# Altium footprint library con-vg.PCBLIB: 112 footprints (part 6 of 7)
Each footprint in its own frame and in the unit in brackets; x right, y up, seen from the top. Pads: shape width x height; smd on the part's side, far side on the other; paste and mask are expansions set on the pad; w line width, h text height; cw(c..) or ccw(c..) is an arc to the next point about the centre after c.
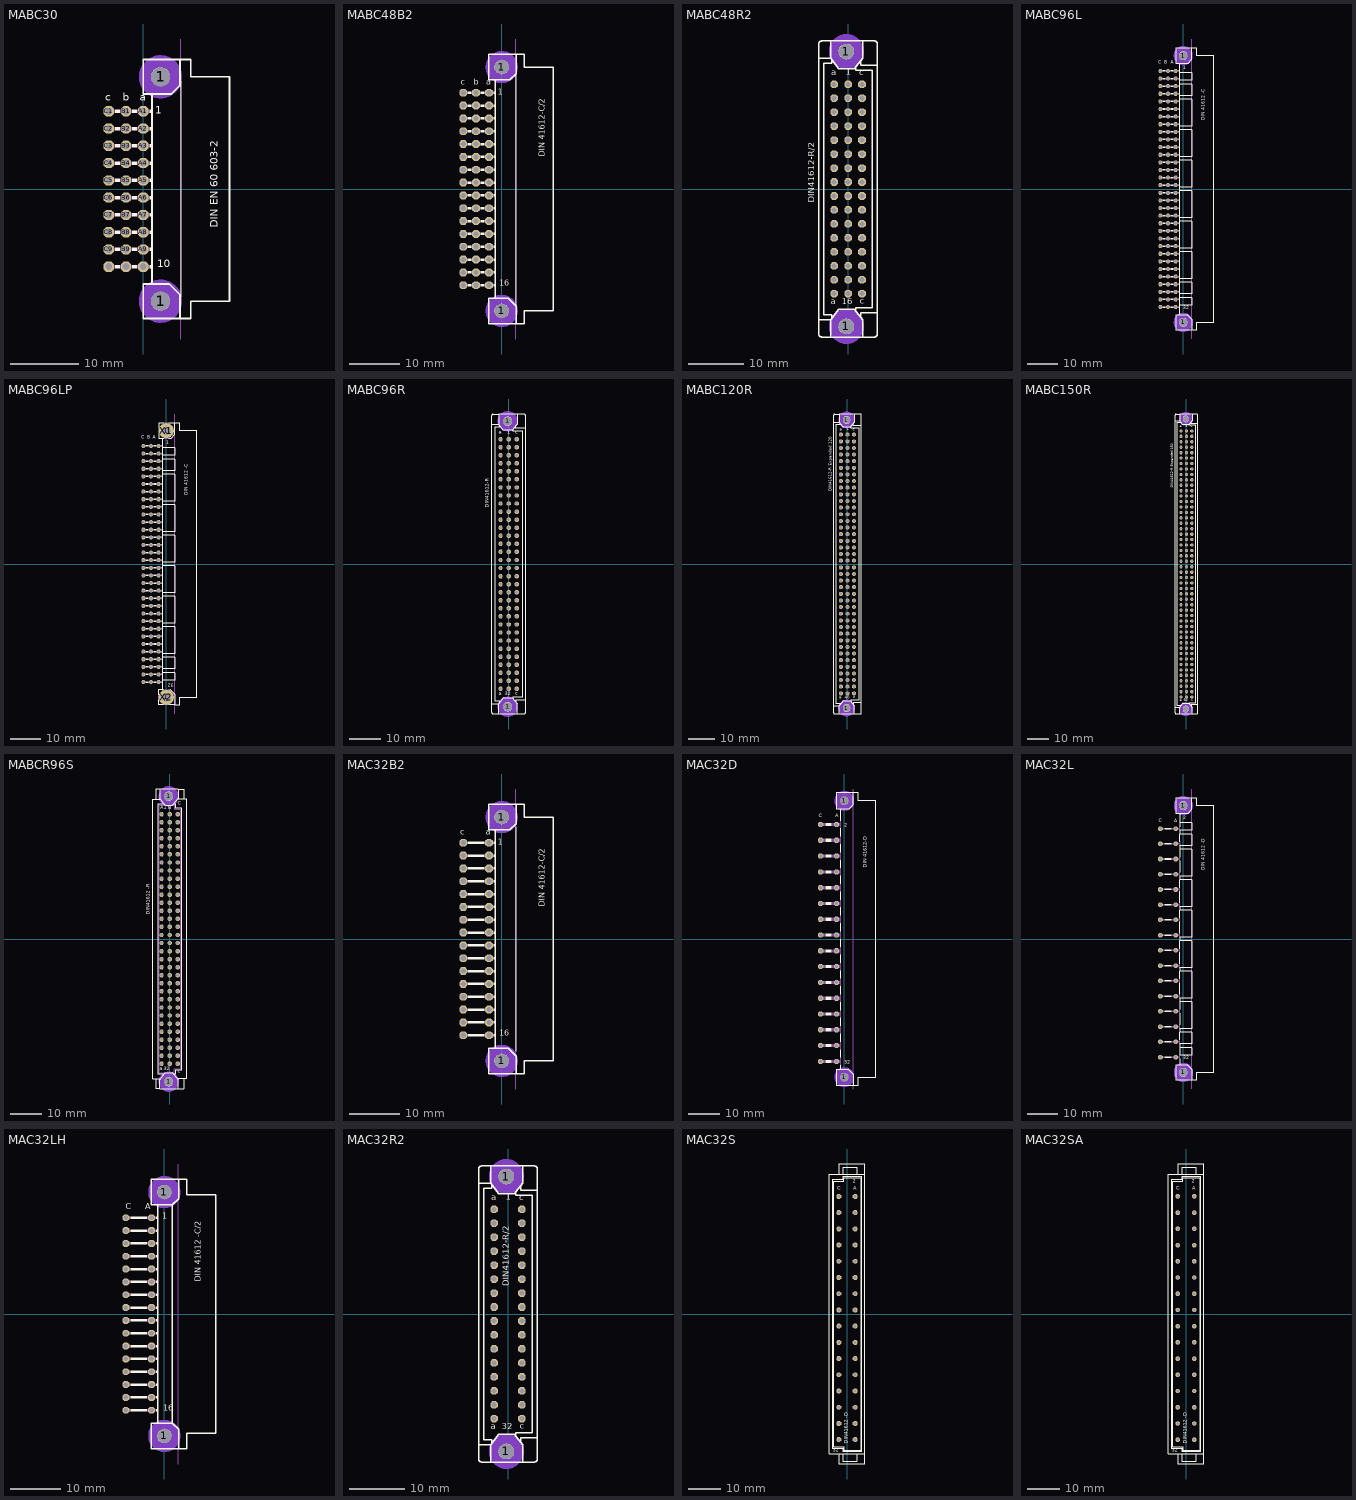
[diagram p5: the footprints below, top view; thin cyan lines are the x and y axes]

## MABC30 [mil]
pads (32):
  round 110 hole 110: 1(100,-650) 1(100,650)
  oct 59.06x59.06 hole 40: A1(0,450) A2(0,350) A3(0,250) A4(0,150) A5(0,50) A6(0,-50) A7(0,-150) A8(0,-250) A9(0,-350) A10(0,-450) B1(-100,450) B2(-100,350) B3(-100,250) B4(-100,150) B5(-100,50) B6(-100,-50) B7(-100,-150) B8(-100,-250) B9(-100,-350) B10(-100,-450) C1(-200,450) C2(-200,350) C3(-200,250) C4(-200,150) C5(-200,50) C6(-200,-50) C7(-200,-150) C8(-200,-250) C9(-200,-350) C10(-200,-450)
Bottom Layer keep-out:
  circle w70: c100,650 r90
  circle w70: c100,-650 r90
Top Overlay:
  circle w10: c100,650 r50
  circle w10: c100,-650 r50
  rectangle: 35,440 50,460
  rectangle: 35,340 50,360
  rectangle: 35,240 50,260
  rectangle: 35,140 50,160
  rectangle: 35,40 50,60
  rectangle: 35,-60 50,-40
  rectangle: 35,-160 50,-140
  rectangle: 35,-260 50,-240
  rectangle: 35,-360 50,-340
  rectangle: 35,-460 50,-440
  rectangle: -65,440 -35,460
  rectangle: -165,440 -135,460
  rectangle: -65,340 -35,360
  rectangle: -165,340 -135,360
  rectangle: -65,240 -35,260
  rectangle: -165,240 -135,260
  rectangle: -165,140 -135,160
  rectangle: -65,140 -35,160
  rectangle: -65,40 -35,60
  rectangle: -165,40 -135,60
  rectangle: -165,-60 -135,-40
  rectangle: -65,-60 -35,-40
  rectangle: -65,-160 -35,-140
  rectangle: -165,-160 -135,-140
  rectangle: -165,-260 -135,-240
  rectangle: -65,-260 -35,-240
  rectangle: -65,-360 -35,-340
  rectangle: -165,-360 -135,-340
  rectangle: -165,-460 -135,-440
  rectangle: -65,-460 -35,-440
  lines w2: 218.11,-625 218.11,625
  lines w10: 50,-545 50,550 ; 50,550 0,550 0,750 213,750 ; 50,550 163,550 213,600 213,750 ; 213,-750 0,-750 0,-550 150,-550 213,-613 213,-750 ; 213,-750 275,-750 275,-650 500,-650 500,650 275,650 275,750 213,750
  text "1" at 70,420 h77.5
  text "DIN EN 60 603-2" at 450,-225 h77.5
  text "c" at -220,495 h77.5
  text "b" at -120,495 h77.5
  text "a" at -20,495 h77.5
  text "10" at 80,-470 h77.5
Mechanical 1:
  lines w0: 218.11,-869 218.11,869
Mechanical 16:
  rectangle: -35,440 35,460
  rectangle: -210,440 -165,460
  rectangle: -35,340 35,360
  rectangle: -210,340 -165,360
  rectangle: -210,240 -165,260
  rectangle: -35,240 35,260
  rectangle: -35,140 35,160
  rectangle: -210,140 -165,160
  rectangle: -35,40 35,60
  rectangle: -35,-60 35,-40
  rectangle: -210,40 -165,60
  rectangle: -210,-60 -165,-40
  rectangle: -210,-160 -165,-140
  rectangle: -35,-160 35,-140
  rectangle: -35,-260 35,-240
  rectangle: -210,-260 -165,-240
  rectangle: -35,-360 35,-340
  rectangle: -210,-360 -165,-340
  rectangle: -35,-460 35,-440
  rectangle: -210,-460 -165,-440
  rectangle: -135,440 -65,460
  rectangle: -135,340 -65,360
  rectangle: -135,240 -65,260
  rectangle: -135,140 -65,160
  rectangle: -135,40 -65,60
  rectangle: -135,-60 -65,-40
  rectangle: -135,-160 -65,-140
  rectangle: -135,-260 -65,-240
  rectangle: -135,-360 -65,-340
  rectangle: -135,-460 -65,-440
Via Holes:
  circle w70: c100,650 r90
  circle w70: c100,-650 r90

## MABC48B2 [mil]
pads (50):
  round 110 hole 110: 1(0,-950) 1(0,950)
  oct 60x60 hole 40: A1(-100,750) A2(-100,650) A3(-100,550) A4(-100,450) A5(-100,350) A6(-100,250) A7(-100,150) A8(-100,50) A9(-100,-50) A10(-100,-150) A11(-100,-250) A12(-100,-350) A13(-100,-450) A14(-100,-550) A15(-100,-650) A16(-100,-750) B1(-200,750) B2(-200,650) B3(-200,550) B4(-200,450) B5(-200,350) B6(-200,250) B7(-200,150) B8(-200,50) B9(-200,-50) B10(-200,-150) B11(-200,-250) B12(-200,-350) B13(-200,-450) B14(-200,-550) B15(-200,-650) B16(-200,-750) C1(-300,750) C2(-300,650) C3(-300,550) C4(-300,450) C5(-300,350) C6(-300,250) C7(-300,150) C8(-300,50) C9(-300,-50) C10(-300,-150) C11(-300,-250) C12(-300,-350) C13(-300,-450) C14(-300,-550) C15(-300,-650) C16(-300,-750)
Bottom Layer keep-out:
  circle w70: c0,950 r90
  circle w70: c0,-950 r90
Top Overlay:
  circle w10: c0,950 r50
  circle w10: c0,-950 r50
  rectangle: -65,740 -50,760
  rectangle: -65,640 -50,660
  rectangle: -65,540 -50,560
  rectangle: -65,440 -50,460
  rectangle: -65,340 -50,360
  rectangle: -65,240 -50,260
  rectangle: -65,140 -50,160
  rectangle: -65,40 -50,60
  rectangle: -65,-60 -50,-40
  rectangle: -65,-160 -50,-140
  rectangle: -65,-260 -50,-240
  rectangle: -65,-360 -50,-340
  rectangle: -65,-460 -50,-440
  rectangle: -65,-560 -50,-540
  rectangle: -65,-660 -50,-640
  rectangle: -65,-760 -50,-740
  rectangle: -165,740 -135,760
  rectangle: -265,740 -235,760
  rectangle: -165,640 -135,660
  rectangle: -265,640 -235,660
  rectangle: -165,540 -135,560
  rectangle: -265,540 -235,560
  rectangle: -265,440 -235,460
  rectangle: -165,440 -135,460
  rectangle: -165,340 -135,360
  rectangle: -265,340 -235,360
  rectangle: -265,240 -235,260
  rectangle: -165,240 -135,260
  rectangle: -165,140 -135,160
  rectangle: -265,140 -235,160
  rectangle: -265,40 -235,60
  rectangle: -165,40 -135,60
  rectangle: -165,-60 -135,-40
  rectangle: -265,-60 -235,-40
  rectangle: -265,-160 -235,-140
  rectangle: -165,-160 -135,-140
  rectangle: -165,-260 -135,-240
  rectangle: -265,-260 -235,-240
  rectangle: -265,-360 -235,-340
  rectangle: -165,-360 -135,-340
  rectangle: -165,-460 -135,-440
  rectangle: -265,-460 -235,-440
  rectangle: -265,-560 -235,-540
  rectangle: -165,-560 -135,-540
  rectangle: -165,-660 -135,-640
  rectangle: -265,-660 -235,-640
  rectangle: -265,-760 -235,-740
  rectangle: -165,-760 -135,-740
  lines w2: 110,-925 110,925
  lines w10: -50,-845 -50,850 ; -50,850 -100,850 -100,1050 113,1050 ; -50,850 63,850 113,900 113,1050 ; 113,-1050 -100,-1050 -100,-850 50,-850 113,-913 113,-1050 ; 113,-1050 175,-1050 175,-950 400,-950 400,950 175,950 175,1050 113,1050
  text "1" at -30,720 h77.5
  text "DIN 41612-C/2" at 350,250 h77.5
  text "c" at -320,795 h77.5
  text "b" at -220,795 h77.5
  text "a" at -120,795 h77.5
  text "16" at -20,-770 h77.5
Mechanical 1:
  lines w0: 110,-1169 110,1169
Mechanical 16:
  rectangle: -135,740 -65,760
  rectangle: -310,740 -265,760
  rectangle: -135,640 -65,660
  rectangle: -310,640 -265,660
  rectangle: -310,540 -265,560
  rectangle: -135,540 -65,560
  rectangle: -135,440 -65,460
  rectangle: -310,440 -265,460
  rectangle: -135,340 -65,360
  rectangle: -135,240 -65,260
  rectangle: -310,340 -265,360
  rectangle: -310,240 -265,260
  rectangle: -310,140 -265,160
  rectangle: -135,140 -65,160
  rectangle: -135,40 -65,60
  rectangle: -310,40 -265,60
  rectangle: -135,-60 -65,-40
  rectangle: -310,-60 -265,-40
  rectangle: -135,-160 -65,-140
  rectangle: -310,-160 -265,-140
  rectangle: -310,-260 -265,-240
  rectangle: -135,-260 -65,-240
  rectangle: -135,-360 -65,-340
  rectangle: -135,-460 -65,-440
  rectangle: -310,-360 -265,-340
  rectangle: -310,-460 -265,-440
  rectangle: -310,-560 -265,-540
  rectangle: -135,-560 -65,-540
  rectangle: -135,-660 -65,-640
  rectangle: -310,-660 -265,-640
  rectangle: -310,-760 -265,-740
  rectangle: -135,-760 -65,-740
  rectangle: -235,740 -165,760
  rectangle: -235,640 -165,660
  rectangle: -235,540 -165,560
  rectangle: -235,440 -165,460
  rectangle: -235,340 -165,360
  rectangle: -235,240 -165,260
  rectangle: -235,140 -165,160
  rectangle: -235,40 -165,60
  rectangle: -235,-60 -165,-40
  rectangle: -235,-160 -165,-140
  rectangle: -235,-260 -165,-240
  rectangle: -235,-360 -165,-340
  rectangle: -235,-460 -165,-440
  rectangle: -235,-560 -165,-540
  rectangle: -235,-660 -165,-640
  rectangle: -235,-760 -165,-740
Via Holes:
  circle w70: c0,950 r90
  circle w70: c0,-950 r90

## MABC48R2 [mil]
pads (50):
  round 110 hole 110: 1(-12,-984.25) 1(-12,984.25)
  oct 54x54 hole 36: A1(-100,750) A2(-100,650) A3(-100,550) A4(-100,450) A5(-100,350) A6(-100,250) A7(-100,150) A8(-100,50) A9(-100,-50) A10(-100,-150) A11(-100,-250) A12(-100,-350) A13(-100,-450) A14(-100,-550) A15(-100,-650) A16(-100,-750) B1(0,750) B2(0,650) B3(0,550) B4(0,450) B5(0,350) B6(0,250) B7(0,150) B8(0,50) B9(0,-50) B10(0,-150) B11(0,-250) B12(0,-350) B13(0,-450) B14(0,-550) B15(0,-650) B16(0,-750) C1(100,750) C2(100,650) C3(100,550) C4(100,450) C5(100,350) C6(100,250) C7(100,150) C8(100,50) C9(100,-50) C10(100,-150) C11(100,-250) C12(100,-350) C13(100,-450) C14(100,-550) C15(100,-650) C16(100,-750)
Bottom Layer keep-out:
  circle w70: c-12,984.25 r90
  circle w70: c-12,-984.25 r90
Top Overlay:
  circle w10: c-12,-984.25 r50
  circle w10: c-12,984.25 r50
  lines w10: -115,-920 -115,-900 -175,-900 -175,900 -115,900 -115,920 ; 55,870 55,850 175,850 175,-850 55,-850 55,-875 45,-860 ; 90,-915 90,-885 210,-885 ; 90,915 90,885 210,885 ; -210,-935 -210,-1040 ccw(c-190,-1040) -190,-1060 -125,-1060 ; -210,-935 -210,935 ; -210,-935 -125,-935 ; -210,935 -210,1040 cw(c-190,1040) -190,1060 -125,1060 ; -210,935 -125,935 ; -125,-1060 -125,-935 ; -125,-1060 105,-1060 ; -125,-935 -65,-860 45,-860 ; -125,935 -125,1060 ; -125,935 -65,860 45,860 105,935 105,1060 ; -125,1060 105,1060 ; 45,-860 105,-935 105,-1060 ; 105,-1060 190,-1060 ccw(c190,-1040) 210,-1040 210,-885 ; 105,1060 190,1060 cw(c190,1040) 210,1040 210,885 ; 210,-885 210,885
  text "16" at -45,-845 h77.5
  text "DIN41612-R/2" at -225,-100 h77.5
  text "a" at -125,-845 h77.5
  text "c" at 85,-840 h77.5
  text "1" at -15,800 h77.5
  text "a" at -120,795 h77.5
  text "c" at 80,795 h77.5
Via Holes:
  circle w70: c-12,984.25 r90
  circle w70: c-12,-984.25 r90

## MABC96L [mil]
pads (98):
  round 110 hole 110: 1(0,-1750) 1(0,1750)
  oct 54x54 hole 36: A1(-100,1550) A2(-100,1450) A3(-100,1350) A4(-100,1250) A5(-100,1150) A6(-100,1050) A7(-100,950) A8(-100,850) A9(-100,750) A10(-100,650) A11(-100,550) A12(-100,450) A13(-100,350) A14(-100,250) A15(-100,150) A16(-100,50) A17(-100,-50) A18(-100,-150) A19(-100,-250) A20(-100,-350) A21(-100,-450) A22(-100,-550) A23(-100,-650) A24(-100,-750) A25(-100,-850) A26(-100,-950) A27(-100,-1050) A28(-100,-1150) A29(-100,-1250) A30(-100,-1350) A31(-100,-1450) A32(-100,-1550) B1(-200,1550) B2(-200,1450) B3(-200,1350) B4(-200,1250) B5(-200,1150) B6(-200,1050) B7(-200,950) B8(-200,850) B9(-200,750) B10(-200,650) B11(-200,550) B12(-200,450) B13(-200,350) B14(-200,250) B15(-200,150) B16(-200,50) B17(-200,-50) B18(-200,-150) B19(-200,-250) B20(-200,-350) B21(-200,-450) B22(-200,-550) B23(-200,-650) B24(-200,-750) B25(-200,-850) B26(-200,-950) B27(-200,-1050) B28(-200,-1150) B29(-200,-1250) B30(-200,-1350) B31(-200,-1450) B32(-200,-1550) C1(-300,1550) C2(-300,1450) C3(-300,1350) C4(-300,1250) C5(-300,1150) C6(-300,1050) C7(-300,950) C8(-300,850) C9(-300,750) C10(-300,650) C11(-300,550) C12(-300,450) C13(-300,350) C14(-300,250) C15(-300,150) C16(-300,50) C17(-300,-50) C18(-300,-150) C19(-300,-250) C20(-300,-350) C21(-300,-450) C22(-300,-550) C23(-300,-650) C24(-300,-750) C25(-300,-850) C26(-300,-950) C27(-300,-1050) C28(-300,-1150) C29(-300,-1250) C30(-300,-1350) C31(-300,-1450) C32(-300,-1550)
Bottom Layer keep-out:
  circle w70: c0,1750 r90
  circle w70: c0,-1750 r90
Top Overlay:
  drawing of 168 lines, arcs and shapes, not listed
  text "C" at -325,1625 h77.5
  text "A" at -165,1625 h77.5
  text "1" at 0,1550 h77.5
  text "B" at -250,1625 h77.5
  text "32" at 0,-1600 h77.5
  text "DIN 41612 -C" at 300,900 h77.5
Mechanical 1:
  lines w0: 110,-1969 110,1969
Mechanical 16:
  rectangle: -135,1540 -65,1560
  rectangle: -310,1540 -265,1560
  rectangle: -135,1440 -65,1460
  rectangle: -310,1440 -265,1460
  rectangle: -310,1340 -265,1360
  rectangle: -135,1340 -65,1360
  rectangle: -135,1240 -65,1260
  rectangle: -310,1240 -265,1260
  rectangle: -135,1140 -65,1160
  rectangle: -135,1040 -65,1060
  rectangle: -310,1140 -265,1160
  rectangle: -310,1040 -265,1060
  rectangle: -310,940 -265,960
  rectangle: -135,940 -65,960
  rectangle: -135,840 -65,860
  rectangle: -310,840 -265,860
  rectangle: -135,740 -65,760
  rectangle: -310,740 -265,760
  rectangle: -135,640 -65,660
  rectangle: -310,640 -265,660
  rectangle: -310,540 -265,560
  rectangle: -135,540 -65,560
  rectangle: -135,440 -65,460
  rectangle: -135,340 -65,360
  rectangle: -310,440 -265,460
  rectangle: -310,340 -265,360
  rectangle: -310,240 -265,260
  rectangle: -135,240 -65,260
  rectangle: -135,140 -65,160
  rectangle: -310,140 -265,160
  rectangle: -310,40 -265,60
  rectangle: -135,40 -65,60
  rectangle: -135,-60 -65,-40
  rectangle: -310,-60 -265,-40
  rectangle: -135,-160 -65,-140
  rectangle: -310,-160 -265,-140
  rectangle: -135,-260 -65,-240
  rectangle: -310,-260 -265,-240
  rectangle: -310,-360 -265,-340
  rectangle: -135,-360 -65,-340
  rectangle: -135,-460 -65,-440
  rectangle: -310,-460 -265,-440
  rectangle: -135,-660 -65,-640
  rectangle: -310,-660 -265,-640
  rectangle: -135,-560 -65,-540
  rectangle: -310,-560 -265,-540
  rectangle: -135,-760 -65,-740
  rectangle: -310,-760 -265,-740
  rectangle: -310,-860 -265,-840
  rectangle: -135,-860 -65,-840
  rectangle: -135,-960 -65,-940
  rectangle: -310,-960 -265,-940
  rectangle: -135,-1060 -65,-1040
  rectangle: -310,-1060 -265,-1040
  rectangle: -135,-1160 -65,-1140
  rectangle: -310,-1160 -265,-1140
  rectangle: -310,-1260 -265,-1240
  rectangle: -135,-1260 -65,-1240
  rectangle: -135,-1360 -65,-1340
  rectangle: -310,-1360 -265,-1340
  rectangle: -310,-1460 -265,-1440
  rectangle: -135,-1460 -65,-1440
  rectangle: -135,-1560 -65,-1540
  rectangle: -310,-1560 -265,-1540
  rectangle: -235,1540 -165,1560
  rectangle: -235,1440 -165,1460
  rectangle: -235,1340 -165,1360
  rectangle: -235,1240 -165,1260
  rectangle: -235,1140 -165,1160
  rectangle: -235,1040 -165,1060
  rectangle: -235,940 -165,960
  rectangle: -235,840 -165,860
  rectangle: -235,740 -165,760
  rectangle: -235,640 -165,660
  rectangle: -235,540 -165,560
  rectangle: -235,440 -165,460
  rectangle: -235,340 -165,360
  rectangle: -235,240 -165,260
  rectangle: -235,140 -165,160
  rectangle: -235,40 -165,60
  rectangle: -235,-60 -165,-40
  rectangle: -235,-160 -165,-140
  rectangle: -235,-260 -165,-240
  rectangle: -235,-360 -165,-340
  rectangle: -235,-460 -165,-440
  rectangle: -235,-560 -165,-540
  rectangle: -235,-660 -165,-640
  rectangle: -235,-760 -165,-740
  rectangle: -235,-860 -165,-840
  rectangle: -235,-960 -165,-940
  rectangle: -235,-1060 -165,-1040
  rectangle: -235,-1160 -165,-1140
  rectangle: -235,-1260 -165,-1240
  rectangle: -235,-1360 -165,-1340
  rectangle: -235,-1460 -165,-1440
  rectangle: -235,-1560 -165,-1540
Via Holes:
  circle w70: c0,1750 r90
  circle w70: c0,-1750 r90

## MABC96LP [mil]
pads (100):
  round 110 hole 110: 1(0,-1750) 1(0,1750)
  oct 54x54 hole 36: A1(-100,1550) A2(-100,1450) A3(-100,1350) A4(-100,1250) A5(-100,1150) A6(-100,1050) A7(-100,950) A8(-100,850) A9(-100,750) A10(-100,650) A11(-100,550) A12(-100,450) A13(-100,350) A14(-100,250) A15(-100,150) A16(-100,50) A17(-100,-50) A18(-100,-150) A19(-100,-250) A20(-100,-350) A21(-100,-450) A22(-100,-550) A23(-100,-650) A24(-100,-750) A25(-100,-850) A26(-100,-950) A27(-100,-1050) A28(-100,-1150) A29(-100,-1250) A30(-100,-1350) A31(-100,-1450) A32(-100,-1550) B1(-200,1550) B2(-200,1450) B3(-200,1350) B4(-200,1250) B5(-200,1150) B6(-200,1050) B7(-200,950) B8(-200,850) B9(-200,750) B10(-200,650) B11(-200,550) B12(-200,450) B13(-200,350) B14(-200,250) B15(-200,150) B16(-200,50) B17(-200,-50) B18(-200,-150) B19(-200,-250) B20(-200,-350) B21(-200,-450) B22(-200,-550) B23(-200,-650) B24(-200,-750) B25(-200,-850) B26(-200,-950) B27(-200,-1050) B28(-200,-1150) B29(-200,-1250) B30(-200,-1350) B31(-200,-1450) B32(-200,-1550) C1(-300,1550) C2(-300,1450) C3(-300,1350) C4(-300,1250) C5(-300,1150) C6(-300,1050) C7(-300,950) C8(-300,850) C9(-300,750) C10(-300,650) C11(-300,550) C12(-300,450) C13(-300,350) C14(-300,250) C15(-300,150) C16(-300,50) C17(-300,-50) C18(-300,-150) C19(-300,-250) C20(-300,-350) C21(-300,-450) C22(-300,-550) C23(-300,-650) C24(-300,-750) C25(-300,-850) C26(-300,-950) C27(-300,-1050) C28(-300,-1150) C29(-300,-1250) C30(-300,-1350) C31(-300,-1450) C32(-300,-1550)
  round 200 hole 110: X1(0,1750) X2(0,-1750)
Top Overlay:
  drawing of 172 lines, arcs and shapes, not listed
  text "C" at -325,1625 h77.5
  text "A" at -175,1625 h77.5
  text "1" at 0,1550 h77.5
  text "B" at -250,1625 h77.5
  text "32" at 100,-1550 h77.5
  text "DIN 41612 -C" at 300,900 h77.5
Mechanical 1:
  lines w0: 110,-1969 110,1969
Mechanical 16:
  circle w6: c0,1750 r50
  circle w6: c0,-1750 r50
  rectangle: -135,1540 -65,1560
  rectangle: -310,1540 -265,1560
  rectangle: -135,1440 -65,1460
  rectangle: -310,1440 -265,1460
  rectangle: -310,1340 -265,1360
  rectangle: -135,1340 -65,1360
  rectangle: -135,1240 -65,1260
  rectangle: -310,1240 -265,1260
  rectangle: -135,1140 -65,1160
  rectangle: -135,1040 -65,1060
  rectangle: -310,1140 -265,1160
  rectangle: -310,1040 -265,1060
  rectangle: -310,940 -265,960
  rectangle: -135,940 -65,960
  rectangle: -135,840 -65,860
  rectangle: -310,840 -265,860
  rectangle: -135,740 -65,760
  rectangle: -310,740 -265,760
  rectangle: -135,640 -65,660
  rectangle: -310,640 -265,660
  rectangle: -310,540 -265,560
  rectangle: -135,540 -65,560
  rectangle: -135,440 -65,460
  rectangle: -135,340 -65,360
  rectangle: -310,440 -265,460
  rectangle: -310,340 -265,360
  rectangle: -310,240 -265,260
  rectangle: -135,240 -65,260
  rectangle: -135,140 -65,160
  rectangle: -310,140 -265,160
  rectangle: -310,40 -265,60
  rectangle: -135,40 -65,60
  rectangle: -135,-60 -65,-40
  rectangle: -310,-60 -265,-40
  rectangle: -135,-160 -65,-140
  rectangle: -310,-160 -265,-140
  rectangle: -135,-260 -65,-240
  rectangle: -310,-260 -265,-240
  rectangle: -310,-360 -265,-340
  rectangle: -135,-360 -65,-340
  rectangle: -135,-460 -65,-440
  rectangle: -310,-460 -265,-440
  rectangle: -135,-660 -65,-640
  rectangle: -310,-660 -265,-640
  rectangle: -135,-560 -65,-540
  rectangle: -310,-560 -265,-540
  rectangle: -135,-760 -65,-740
  rectangle: -310,-760 -265,-740
  rectangle: -310,-860 -265,-840
  rectangle: -135,-860 -65,-840
  rectangle: -135,-960 -65,-940
  rectangle: -310,-960 -265,-940
  rectangle: -135,-1060 -65,-1040
  rectangle: -310,-1060 -265,-1040
  rectangle: -135,-1160 -65,-1140
  rectangle: -310,-1160 -265,-1140
  rectangle: -310,-1260 -265,-1240
  rectangle: -135,-1260 -65,-1240
  rectangle: -135,-1360 -65,-1340
  rectangle: -310,-1360 -265,-1340
  rectangle: -310,-1460 -265,-1440
  rectangle: -135,-1460 -65,-1440
  rectangle: -135,-1560 -65,-1540
  rectangle: -310,-1560 -265,-1540
  rectangle: -235,1540 -165,1560
  rectangle: -235,1440 -165,1460
  rectangle: -235,1340 -165,1360
  rectangle: -235,1240 -165,1260
  rectangle: -235,1140 -165,1160
  rectangle: -235,1040 -165,1060
  rectangle: -235,940 -165,960
  rectangle: -235,840 -165,860
  rectangle: -235,740 -165,760
  rectangle: -235,640 -165,660
  rectangle: -235,540 -165,560
  rectangle: -235,440 -165,460
  rectangle: -235,340 -165,360
  rectangle: -235,240 -165,260
  rectangle: -235,140 -165,160
  rectangle: -235,40 -165,60
  rectangle: -235,-60 -165,-40
  rectangle: -235,-160 -165,-140
  rectangle: -235,-260 -165,-240
  rectangle: -235,-360 -165,-340
  rectangle: -235,-460 -165,-440
  rectangle: -235,-560 -165,-540
  rectangle: -235,-660 -165,-640
  rectangle: -235,-760 -165,-740
  rectangle: -235,-860 -165,-840
  rectangle: -235,-960 -165,-940
  rectangle: -235,-1060 -165,-1040
  rectangle: -235,-1160 -165,-1140
  rectangle: -235,-1260 -165,-1240
  rectangle: -235,-1360 -165,-1340
  rectangle: -235,-1460 -165,-1440
  rectangle: -235,-1560 -165,-1540
  lines w10: -100,-1785 -100,-1715 ; -100,1720 -100,1780 ; -35,-1850 35,-1850 ; -35,1650 35,1650 ; -30,-1650 30,-1650 ; -30,1850 30,1850

## MABC96R [mil]
pads (98):
  round 110 hole 110: 1(-12,-1771.65) 1(-12,1771.65)
  oct 54x54 hole 36: A1(-100,1550) A2(-100,1450) A3(-100,1350) A4(-100,1250) A5(-100,1150) A6(-100,1050) A7(-100,950) A8(-100,850) A9(-100,750) A10(-100,650) A11(-100,550) A12(-100,450) A13(-100,350) A14(-100,250) A15(-100,150) A16(-100,50) A17(-100,-50) A18(-100,-150) A19(-100,-250) A20(-100,-350) A21(-100,-450) A22(-100,-550) A23(-100,-650) A24(-100,-750) A25(-100,-850) A26(-100,-950) A27(-100,-1050) A28(-100,-1150) A29(-100,-1250) A30(-100,-1350) A31(-100,-1450) A32(-100,-1550) B1(0,1550) B2(0,1450) B3(0,1350) B4(0,1250) B5(0,1150) B6(0,1050) B7(0,950) B8(0,850) B9(0,750) B10(0,650) B11(0,550) B12(0,450) B13(0,350) B14(0,250) B15(0,150) B16(0,50) B17(0,-50) B18(0,-150) B19(0,-250) B20(0,-350) B21(0,-450) B22(0,-550) B23(0,-650) B24(0,-750) B25(0,-850) B26(0,-950) B27(0,-1050) B28(0,-1150) B29(0,-1250) B30(0,-1350) B31(0,-1450) B32(0,-1550) C1(100,1550) C2(100,1450) C3(100,1350) C4(100,1250) C5(100,1150) C6(100,1050) C7(100,950) C8(100,850) C9(100,750) C10(100,650) C11(100,550) C12(100,450) C13(100,350) C14(100,250) C15(100,150) C16(100,50) C17(100,-50) C18(100,-150) C19(100,-250) C20(100,-350) C21(100,-450) C22(100,-550) C23(100,-650) C24(100,-750) C25(100,-850) C26(100,-950) C27(100,-1050) C28(100,-1150) C29(100,-1250) C30(100,-1350) C31(100,-1450) C32(100,-1550)
Bottom Layer keep-out:
  circle w70: c-12,1771.65 r90
  circle w70: c-12,-1771.65 r90
Top Overlay:
  circle w10: c-12,-1771.65 r50
  circle w10: c-12,1771.65 r50
  lines w10: -115,-1720 -115,-1700 -175,-1700 -175,1700 -115,1700 -115,1720 ; 55,1670 55,1650 175,1650 175,-1650 55,-1650 55,-1675 45,-1660 ; 90,-1715 90,-1685 210,-1685 ; 90,1715 90,1685 210,1685 ; -210,-1735 -210,-1840 ccw(c-190,-1840) -190,-1860 -125,-1860 ; -210,-1735 -210,1735 ; -210,-1735 -125,-1735 ; -210,1735 -210,1840 cw(c-190,1840) -190,1860 -125,1860 ; -210,1735 -125,1735 ; -125,-1860 -125,-1735 ; -125,-1860 105,-1860 ; -125,-1735 -65,-1660 45,-1660 ; -125,1735 -125,1860 ; -125,1735 -65,1660 45,1660 105,1735 105,1860 ; -125,1860 105,1860 ; 45,-1660 105,-1735 105,-1860 ; 105,-1860 190,-1860 ccw(c190,-1840) 210,-1840 210,-1685 ; 105,1860 190,1860 cw(c190,1840) 210,1840 210,1685 ; 210,-1685 210,1685
  text "32" at -45,-1645 h77.5
  text "a" at -125,-1645 h77.5
  text "c" at 85,-1640 h77.5
  text "1" at -15,1600 h77.5
  text "a" at -120,1595 h77.5
  text "c" at 80,1595 h77.5
  text "DIN41612-R" at -225,700 h77.5
Via Holes:
  circle w70: c-12,1771.65 r90
  circle w70: c-12,-1771.65 r90

## MABC120R [mil]
pads (122):
  round 110 hole 110: 1(-12,-2171.65) 1(-12,2171.65)
  oct 60x60 hole 40: A1(-100,1950) A2(-100,1850) A3(-100,1750) A4(-100,1650) A5(-100,1550) A6(-100,1450) A7(-100,1350) A8(-100,1250) A9(-100,1150) A10(-100,1050) A11(-100,950) A12(-100,850) A13(-100,750) A14(-100,650) A15(-100,550) A16(-100,450) A17(-100,350) A18(-100,250) A19(-100,150) A20(-100,50) A21(-100,-50) A22(-100,-150) A23(-100,-250) A24(-100,-350) A25(-100,-450) A26(-100,-550) A27(-100,-650) A28(-100,-750) A29(-100,-850) A30(-100,-950) A31(-100,-1050) A32(-100,-1150) A33(-100,-1250) A34(-100,-1350) A35(-100,-1450) A36(-100,-1550) A37(-100,-1650) A38(-100,-1750) A39(-100,-1850) A40(-100,-1950) B1(0,1950) B2(0,1850) B3(0,1750) B4(0,1650) B5(0,1550) B6(0,1450) B7(0,1350) B8(0,1250) B9(0,1150) B10(0,1050) B11(0,950) B12(0,850) B13(0,750) B14(0,650) B15(0,550) B16(0,450) B17(0,350) B18(0,250) B19(0,150) B20(0,50) B21(0,-50) B22(0,-150) B23(0,-250) B24(0,-350) B25(0,-450) B26(0,-550) B27(0,-650) B28(0,-750) B29(0,-850) B30(0,-950) B31(0,-1050) B32(0,-1150) B33(0,-1250) B34(0,-1350) B35(0,-1450) B36(0,-1550) B37(0,-1650) B38(0,-1750) B39(0,-1850) B40(0,-1950) C1(100,1950) C2(100,1850) C3(100,1750) C4(100,1650) C5(100,1550) C6(100,1450) C7(100,1350) C8(100,1250) C9(100,1150) C10(100,1050) C11(100,950) C12(100,850) C13(100,750) C14(100,650) C15(100,550) C16(100,450) C17(100,350) C18(100,250) C19(100,150) C20(100,50) C21(100,-50) C22(100,-150) C23(100,-250) C24(100,-350) C25(100,-450) C26(100,-550) C27(100,-650) C28(100,-750) C29(100,-850) C30(100,-950) C31(100,-1050) C32(100,-1150) C33(100,-1250) C34(100,-1350) C35(100,-1450) C36(100,-1550) C37(100,-1650) C38(100,-1750) C39(100,-1850) C40(100,-1950)
Bottom Layer keep-out:
  circle w70: c-12,2171.65 r90
  circle w70: c-12,-2171.65 r90
Top Overlay:
  circle w10: c-12,-2171.65 r50
  circle w10: c-12,2171.65 r50
  lines w10: -115,-2120 -115,-2100 -175,-2100 -175,2100 -115,2100 -115,2120 ; 55,2070 55,2050 175,2050 175,-2050 55,-2050 55,-2075 45,-2060 ; 90,-2115 90,-2085 210,-2085 ; 90,2115 90,2085 210,2085 ; -210,-2135 -210,-2240 ccw(c-190,-2240) -190,-2260 -125,-2260 ; -210,-2135 -210,2135 ; -210,-2135 -125,-2135 ; -210,2135 -210,2240 cw(c-190,2240) -190,2260 -125,2260 ; -210,2135 -125,2135 ; -125,-2260 -125,-2135 ; -125,-2260 105,-2260 ; -125,-2135 -65,-2060 45,-2060 ; -125,2135 -125,2260 ; -125,2135 -65,2060 45,2060 105,2135 105,2260 ; -125,2260 105,2260 ; 45,-2060 105,-2135 105,-2260 ; 105,-2260 190,-2260 ccw(c190,-2240) 210,-2240 210,-2085 ; 105,2260 190,2260 cw(c190,2240) 210,2240 210,2085 ; 210,-2085 210,2085
  text "a" at -125,-2045 h77.5
  text "c" at 85,-2040 h77.5
  text "1" at -15,2000 h77.5
  text "a" at -120,1995 h77.5
  text "c" at 80,1995 h77.5
  text "40" at -45,-2045 h77.5
  text "DIN41612-R Expanded 120" at -225,1100 h77.5
Via Holes:
  circle w70: c-12,2171.65 r90
  circle w70: c-12,-2171.65 r90

## MABC150R [mil]
pads (152):
  round 110 hole 110: 1(-12,-2671.65) 1(-12,2671.65)
  oct 60x60 hole 40: A1(-100,2450) A2(-100,2350) A3(-100,2250) A4(-100,2150) A5(-100,2050) A6(-100,1950) A7(-100,1850) A8(-100,1750) A9(-100,1650) A10(-100,1550) A11(-100,1450) A12(-100,1350) A13(-100,1250) A14(-100,1150) A15(-100,1050) A16(-100,950) A17(-100,850) A18(-100,750) A19(-100,650) A20(-100,550) A21(-100,450) A22(-100,350) A23(-100,250) A24(-100,150) A25(-100,50) A26(-100,-50) A27(-100,-150) A28(-100,-250) A29(-100,-350) A30(-100,-450) A31(-100,-550) A32(-100,-650) A33(-100,-750) A34(-100,-850) A35(-100,-950) A36(-100,-1050) A37(-100,-1150) A38(-100,-1250) A39(-100,-1350) A40(-100,-1450) A41(-100,-1550) A42(-100,-1650) A43(-100,-1750) A44(-100,-1850) A45(-100,-1950) A46(-100,-2050) A47(-100,-2150) A48(-100,-2250) A49(-100,-2350) A50(-100,-2450) B1(0,2450) B2(0,2350) B3(0,2250) B4(0,2150) B5(0,2050) B6(0,1950) B7(0,1850) B8(0,1750) B9(0,1650) B10(0,1550) B11(0,1450) B12(0,1350) B13(0,1250) B14(0,1150) B15(0,1050) B16(0,950) B17(0,850) B18(0,750) B19(0,650) B20(0,550) B21(0,450) B22(0,350) B23(0,250) B24(0,150) B25(0,50) B26(0,-50) B27(0,-150) B28(0,-250) B29(0,-350) B30(0,-450) B31(0,-550) B32(0,-650) B33(0,-750) B34(0,-850) B35(0,-950) B36(0,-1050) B37(0,-1150) B38(0,-1250) B39(0,-1350) B40(0,-1450) B41(0,-1550) B42(0,-1650) B43(0,-1750) B44(0,-1850) B45(0,-1950) B46(0,-2050) B47(0,-2150) B48(0,-2250) B49(0,-2350) B50(0,-2450) C1(100,2450) C2(100,2350) C3(100,2250) C4(100,2150) C5(100,2050) C6(100,1950) C7(100,1850) C8(100,1750) C9(100,1650) C10(100,1550) C11(100,1450) C12(100,1350) C13(100,1250) C14(100,1150) C15(100,1050) C16(100,950) C17(100,850) C18(100,750) C19(100,650) C20(100,550) C21(100,450) C22(100,350) C23(100,250) C24(100,150) C25(100,50) C26(100,-50) C27(100,-150) C28(100,-250) C29(100,-350) C30(100,-450) C31(100,-550) C32(100,-650) C33(100,-750) C34(100,-850) C35(100,-950) C36(100,-1050) C37(100,-1150) C38(100,-1250) C39(100,-1350) C40(100,-1450) C41(100,-1550) C42(100,-1650) C43(100,-1750) C44(100,-1850) C45(100,-1950) C46(100,-2050) C47(100,-2150) C48(100,-2250) C49(100,-2350) C50(100,-2450)
Bottom Layer keep-out:
  circle w70: c-12,2671.65 r90
  circle w70: c-12,-2671.65 r90
Top Overlay:
  circle w10: c-12,-2671.65 r50
  circle w10: c-12,2671.65 r50
  lines w10: -115,-2620 -115,-2600 -175,-2600 -175,2600 -115,2600 -115,2620 ; 55,2570 55,2550 175,2550 175,-2550 55,-2550 55,-2575 45,-2560 ; 90,-2615 90,-2585 210,-2585 ; 90,2615 90,2585 210,2585 ; -210,-2635 -210,-2740 ccw(c-190,-2740) -190,-2760 -125,-2760 ; -210,-2635 -210,2635 ; -210,-2635 -125,-2635 ; -210,2635 -210,2740 cw(c-190,2740) -190,2760 -125,2760 ; -210,2635 -125,2635 ; -125,-2760 -125,-2635 ; -125,-2760 105,-2760 ; -125,-2635 -65,-2560 45,-2560 ; -125,2635 -125,2760 ; -125,2635 -65,2560 45,2560 105,2635 105,2760 ; -125,2760 105,2760 ; 45,-2560 105,-2635 105,-2760 ; 105,-2760 190,-2760 ccw(c190,-2740) 210,-2740 210,-2585 ; 105,2760 190,2760 cw(c190,2740) 210,2740 210,2585 ; 210,-2585 210,2585
  text "a" at -125,-2545 h77.5
  text "c" at 85,-2540 h77.5
  text "1" at -15,2500 h77.5
  text "a" at -120,2495 h77.5
  text "c" at 80,2495 h77.5
  text "50" at -45,-2545 h77.5
  text "DIN41612-R Expanded 150" at -225,1400 h77.5
Via Holes:
  circle w70: c-12,2671.65 r90
  circle w70: c-12,-2671.65 r90

## MABCR96S [mil]
pads (98):
  round 110 hole 110: 1(-12,-1772) 1(-12,1772)
  oct 54x54 hole 36: A1(-100,1550) A2(-100,1450) A3(-100,1350) A4(-100,1250) A5(-100,1150) A6(-100,1050) A7(-100,950) A8(-100,850) A9(-100,750) A10(-100,650) A11(-100,550) A12(-100,450) A13(-100,350) A14(-100,250) A15(-100,150) A16(-100,50) A17(-100,-50) A18(-100,-150) A19(-100,-250) A20(-100,-350) A21(-100,-450) A22(-100,-550) A23(-100,-650) A24(-100,-750) A25(-100,-850) A26(-100,-950) A27(-100,-1050) A28(-100,-1150) A29(-100,-1250) A30(-100,-1350) A31(-100,-1450) A32(-100,-1550) B1(0,1550) B2(0,1450) B3(0,1350) B4(0,1250) B5(0,1150) B6(0,1050) B7(0,950) B8(0,850) B9(0,750) B10(0,650) B11(0,550) B12(0,450) B13(0,350) B14(0,250) B15(0,150) B16(0,50) B17(0,-50) B18(0,-150) B19(0,-250) B20(0,-350) B21(0,-450) B22(0,-550) B23(0,-650) B24(0,-750) B25(0,-850) B26(0,-950) B27(0,-1050) B28(0,-1150) B29(0,-1250) B30(0,-1350) B31(0,-1450) B32(0,-1550) C1(100,1550) C2(100,1450) C3(100,1350) C4(100,1250) C5(100,1150) C6(100,1050) C7(100,950) C8(100,850) C9(100,750) C10(100,650) C11(100,550) C12(100,450) C13(100,350) C14(100,250) C15(100,150) C16(100,50) C17(100,-50) C18(100,-150) C19(100,-250) C20(100,-350) C21(100,-450) C22(100,-550) C23(100,-650) C24(100,-750) C25(100,-850) C26(100,-950) C27(100,-1050) C28(100,-1150) C29(100,-1250) C30(100,-1350) C31(100,-1450) C32(100,-1550)
Bottom Layer keep-out:
  circle w70: c-12,-1772 r90
  circle w70: c-12,1772 r90
Top Overlay:
  circle w10: c-12,-1772 r50
  circle w10: c-12,1772 r50
  lines w10: -115,-1735 -175,-1735 ; -115,1735 -175,1735 ; 95,-1735 175,-1735 ; 95,1735 175,1735 ; -175,-1735 -210,-1735 -210,1735 -175,1735 ; -175,-1735 -175,-1860 -125,-1860 ; -175,1735 -175,1860 -125,1860 ; -125,-1860 -125,-1750 -65,-1675 ; -125,-1860 105,-1860 ; -125,1860 105,1860 ; -125,1860 -125,1750 -65,1675 ; -65,-1675 -150,-1675 -150,1675 -65,1675 ; -65,-1675 -55,-1660 35,-1660 45,-1675 ; -65,1675 -50,1660 35,1660 45,1675 ; 45,-1675 75,-1675 75,-1625 150,-1625 150,1625 75,1625 75,1675 45,1675 ; 45,-1675 105,-1750 105,-1860 ; 45,1675 105,1750 105,1860 ; 105,-1860 175,-1860 175,-1735 ; 105,1860 175,1860 175,1735 ; 175,-1735 210,-1735 210,1735 175,1735
  text "C" at 100,1650 h77.5
  text "32" at -70,-1650 h77.5
  text "A" at -115,1595 h77.5
  text "1" at -75,1595 h77.5
  text "DIN41612 -R" at -225,300 h77.5
  text "B" at -15,1595 h77.5
  text "a" at -125,-1650 h77.5
  text "c" at 100,-1680.32 h77.5
Mechanical 16:
  rectangle: -110,-1560 -90,-1540
  rectangle: -110,-1460 -90,-1440
  rectangle: 90,-1560 110,-1540
  rectangle: 90,-1460 110,-1440
  rectangle: 90,-1360 110,-1340
  rectangle: -110,-1360 -90,-1340
  rectangle: -110,-1260 -90,-1240
  rectangle: 90,-1260 110,-1240
  rectangle: -110,-1160 -90,-1140
  rectangle: 90,-1160 110,-1140
  rectangle: 90,-1060 110,-1040
  rectangle: -110,-1060 -90,-1040
  rectangle: -110,-960 -90,-940
  rectangle: 90,-960 110,-940
  rectangle: -110,-860 -90,-840
  rectangle: -110,-760 -90,-740
  rectangle: 90,-860 110,-840
  rectangle: 90,-760 110,-740
  rectangle: -110,-660 -90,-640
  rectangle: -110,-560 -90,-540
  rectangle: 90,-660 110,-640
  rectangle: 90,-560 110,-540
  rectangle: -110,-460 -90,-440
  rectangle: -110,-360 -90,-340
  rectangle: -110,-260 -90,-240
  rectangle: 90,-460 110,-440
  rectangle: 90,-360 110,-340
  rectangle: 90,-260 110,-240
  rectangle: -110,-160 -90,-140
  rectangle: -110,-60 -90,-40
  rectangle: 90,-160 110,-140
  rectangle: 90,-60 110,-40
  rectangle: 90,40 110,60
  rectangle: -110,40 -90,60
  rectangle: -110,140 -90,160
  rectangle: 90,140 110,160
  rectangle: 90,240 110,260
  rectangle: -110,240 -90,260
  rectangle: 90,340 110,360
  rectangle: 90,440 110,460
  rectangle: -110,340 -90,360
  rectangle: -110,440 -90,460
  rectangle: 90,540 110,560
  rectangle: 90,640 110,660
  rectangle: -110,540 -90,560
  rectangle: -110,640 -90,660
  rectangle: -110,740 -90,760
  rectangle: -110,840 -90,860
  rectangle: 90,740 110,760
  rectangle: 90,840 110,860
  rectangle: 90,940 110,960
  rectangle: 90,1040 110,1060
  rectangle: 90,1140 110,1160
  rectangle: -110,940 -90,960
  rectangle: -110,1040 -90,1060
  rectangle: -110,1140 -90,1160
  rectangle: 90,1240 110,1260
  rectangle: 90,1340 110,1360
  rectangle: -110,1240 -90,1260
  rectangle: -110,1340 -90,1360
  rectangle: -110,1440 -90,1460
  rectangle: -110,1540 -90,1560
  rectangle: 90,1440 110,1460
  rectangle: 90,1540 110,1560
  rectangle: -10,1540 10,1560
  rectangle: -10,1440 10,1460
  rectangle: -10,1340 10,1360
  rectangle: -10,1240 10,1260
  rectangle: -10,1140 10,1160
  rectangle: -10,1040 10,1060
  rectangle: -10,940 10,960
  rectangle: -10,840 10,860
  rectangle: -10,740 10,760
  rectangle: -10,640 10,660
  rectangle: -10,540 10,560
  rectangle: -10,440 10,460
  rectangle: -10,340 10,360
  rectangle: -10,240 10,260
  rectangle: -10,140 10,160
  rectangle: -10,40 10,60
  rectangle: -10,-60 10,-40
  rectangle: -10,-160 10,-140
  rectangle: -10,-260 10,-240
  rectangle: -10,-360 10,-340
  rectangle: -10,-460 10,-440
  rectangle: -10,-560 10,-540
  rectangle: -10,-660 10,-640
  rectangle: -10,-760 10,-740
  rectangle: -10,-860 10,-840
  rectangle: -10,-960 10,-940
  rectangle: -10,-1060 10,-1040
  rectangle: -10,-1160 10,-1140
  rectangle: -10,-1260 10,-1240
  rectangle: -10,-1360 10,-1340
  rectangle: -10,-1460 10,-1440
  rectangle: -10,-1560 10,-1540
  lines w2: -55,-1660 -135,-1660 -135,1660 -50,1660 ; 35,-1660 60,-1660 60,-1610 135,-1610 135,1610 60,1610 60,1660 35,1660
Via Holes:
  circle w70: c-12,-1772 r90
  circle w70: c-12,1772 r90

## MAC32B2 [mil]
pads (34):
  round 110 hole 110: 1(0,-950) 1(0,950)
  oct 60x60 hole 40: A1(-100,750) A2(-100,650) A3(-100,550) A4(-100,450) A5(-100,350) A6(-100,250) A7(-100,150) A8(-100,50) A9(-100,-50) A10(-100,-150) A11(-100,-250) A12(-100,-350) A13(-100,-450) A14(-100,-550) A15(-100,-650) A16(-100,-750) C1(-300,750) C2(-300,650) C3(-300,550) C4(-300,450) C5(-300,350) C6(-300,250) C7(-300,150) C8(-300,50) C9(-300,-50) C10(-300,-150) C11(-300,-250) C12(-300,-350) C13(-300,-450) C14(-300,-550) C15(-300,-650) C16(-300,-750)
Bottom Layer keep-out:
  circle w70: c0,950 r90
  circle w70: c0,-950 r90
Top Overlay:
  circle w10: c0,950 r50
  circle w10: c0,-950 r50
  rectangle: -65,740 -50,760
  rectangle: -65,640 -50,660
  rectangle: -65,540 -50,560
  rectangle: -65,440 -50,460
  rectangle: -65,340 -50,360
  rectangle: -65,240 -50,260
  rectangle: -65,140 -50,160
  rectangle: -65,40 -50,60
  rectangle: -65,-60 -50,-40
  rectangle: -65,-160 -50,-140
  rectangle: -65,-260 -50,-240
  rectangle: -65,-360 -50,-340
  rectangle: -65,-460 -50,-440
  rectangle: -65,-560 -50,-540
  rectangle: -65,-660 -50,-640
  rectangle: -65,-760 -50,-740
  rectangle: -265,740 -135,760
  rectangle: -265,640 -135,660
  rectangle: -265,540 -135,560
  rectangle: -265,440 -135,460
  rectangle: -265,340 -135,360
  rectangle: -265,240 -135,260
  rectangle: -265,140 -135,160
  rectangle: -265,40 -135,60
  rectangle: -265,-60 -135,-40
  rectangle: -265,-160 -135,-140
  rectangle: -265,-260 -135,-240
  rectangle: -265,-360 -135,-340
  rectangle: -265,-460 -135,-440
  rectangle: -265,-560 -135,-540
  rectangle: -265,-660 -135,-640
  rectangle: -265,-760 -135,-740
  lines w2: 110,-875 110,875
  lines w10: -50,-845 -50,850 ; -50,850 -100,850 -100,1050 113,1050 ; -50,850 63,850 113,900 113,1050 ; 113,-1050 -100,-1050 -100,-850 50,-850 113,-913 113,-1050 ; 113,-1050 175,-1050 175,-950 400,-950 400,950 175,950 175,1050 113,1050
  text "1" at -30,720 h77.5
  text "DIN 41612-C/2" at 350,250 h77.5
  text "c" at -325,795 h77.5
  text "a" at -125,795 h77.5
  text "16" at -20,-770 h77.5
Mechanical 1:
  lines w0: 110,-1169 110,1169
Mechanical 16:
  rectangle: -135,740 -65,760
  rectangle: -310,740 -265,760
  rectangle: -135,640 -65,660
  rectangle: -310,640 -265,660
  rectangle: -310,540 -265,560
  rectangle: -135,540 -65,560
  rectangle: -135,440 -65,460
  rectangle: -310,440 -265,460
  rectangle: -135,340 -65,360
  rectangle: -135,240 -65,260
  rectangle: -310,340 -265,360
  rectangle: -310,240 -265,260
  rectangle: -310,140 -265,160
  rectangle: -135,140 -65,160
  rectangle: -135,40 -65,60
  rectangle: -310,40 -265,60
  rectangle: -135,-60 -65,-40
  rectangle: -310,-60 -265,-40
  rectangle: -135,-160 -65,-140
  rectangle: -310,-160 -265,-140
  rectangle: -310,-260 -265,-240
  rectangle: -135,-260 -65,-240
  rectangle: -135,-360 -65,-340
  rectangle: -135,-460 -65,-440
  rectangle: -310,-360 -265,-340
  rectangle: -310,-460 -265,-440
  rectangle: -310,-560 -265,-540
  rectangle: -135,-560 -65,-540
  rectangle: -135,-660 -65,-640
  rectangle: -310,-660 -265,-640
  rectangle: -310,-760 -265,-740
  rectangle: -135,-760 -65,-740
Via Holes:
  circle w70: c0,950 r90
  circle w70: c0,-950 r90

## MAC32D [mil]
pads (34):
  round 110 hole 110: 1(0,-1750) 1(0,1750)
  oct 66x66 hole 44: A2(-100,1450) A4(-100,1250) A6(-100,1050) A8(-100,850) A10(-100,650) A12(-100,450) A14(-100,250) A16(-100,50) A18(-100,-150) A20(-100,-350) A22(-100,-550) A24(-100,-750) A26(-100,-950) A28(-100,-1150) A30(-100,-1350) A32(-100,-1550) C2(-300,1450) C4(-300,1250) C6(-300,1050) C8(-300,850) C10(-300,650) C12(-300,450) C14(-300,250) C16(-300,50) C18(-300,-150) C20(-300,-350) C22(-300,-550) C24(-300,-750) C26(-300,-950) C28(-300,-1150) C30(-300,-1350) C32(-300,-1550)
Bottom Layer keep-out:
  circle w70: c0,1750 r90
  circle w70: c0,-1750 r90
Top Overlay:
  rectangle: -240,1430 -160,1470
  rectangle: -240,1230 -160,1270
  rectangle: -240,1030 -160,1070
  rectangle: -240,830 -160,870
  rectangle: -240,630 -160,670
  rectangle: -240,430 -160,470
  rectangle: -240,230 -160,270
  rectangle: -240,30 -160,70
  rectangle: -240,-170 -160,-130
  rectangle: -240,-370 -160,-330
  rectangle: -240,-570 -160,-530
  rectangle: -240,-770 -160,-730
  rectangle: -240,-970 -160,-930
  rectangle: -240,-1170 -160,-1130
  rectangle: -240,-1370 -160,-1330
  rectangle: -240,-1570 -160,-1530
  lines w10: -50,-1600 -50,-1650 ; -50,-1500 -50,-1400 ; -50,-1300 -50,-1200 ; -50,-1100 -50,-1000 ; -50,-900 -50,-800 ; -50,-700 -50,-600 ; -50,-500 -50,-400 ; -50,-300 -50,-200 ; -50,-100 -50,0 ; -50,100 -50,200 ; -50,300 -50,400 ; -50,500 -50,600 ; -50,700 -50,800 ; -50,900 -50,1000 ; -50,1100 -50,1200 ; -50,1300 -50,1400 ; -50,1500 -50,1650 ; -50,-1650 -100,-1650 -100,-1850 113,-1850 ; -50,-1650 50,-1650 113,-1713 113,-1850 ; -50,1650 -100,1650 -100,1850 113,1850 ; -50,1650 63,1650 113,1700 113,1850 ; 113,-1850 175,-1850 175,-1750 400,-1750 400,1750 175,1750 175,1850 113,1850
  text "C" at -325,1525 h77.5
  text "A" at -115,1525 h77.5
  text "32" at 0,-1600 h77.5
  text "2" at 0,1400 h77.5
  text "DIN 41612-D" at 300,900 h77.5
Mechanical 1:
  lines w2: 109,-1900 109,1900
Mechanical 16:
  rectangle: -160,1430 -50,1470
  rectangle: -160,1230 -50,1270
  rectangle: -160,1030 -50,1070
  rectangle: -160,830 -50,870
  rectangle: -160,630 -50,670
  rectangle: -160,430 -50,470
  rectangle: -160,230 -50,270
  rectangle: -160,30 -50,70
  rectangle: -160,-170 -50,-130
  rectangle: -160,-370 -50,-330
  rectangle: -160,-570 -50,-530
  rectangle: -160,-770 -50,-730
  rectangle: -160,-970 -50,-930
  rectangle: -160,-1170 -50,-1130
  rectangle: -160,-1370 -50,-1330
  rectangle: -160,-1570 -50,-1530
  rectangle: -315,1430 -240,1470
  rectangle: -315,1230 -240,1270
  rectangle: -315,1030 -240,1070
  rectangle: -315,830 -240,870
  rectangle: -315,630 -240,670
  rectangle: -315,430 -240,470
  rectangle: -315,230 -240,270
  rectangle: -315,30 -240,70
  rectangle: -315,-170 -240,-130
  rectangle: -315,-370 -240,-330
  rectangle: -315,-570 -240,-530
  rectangle: -315,-770 -240,-730
  rectangle: -315,-970 -240,-930
  rectangle: -315,-1170 -240,-1130
  rectangle: -315,-1370 -240,-1330
  rectangle: -315,-1570 -240,-1530
  lines w10: -50,-1600 -50,-1500 ; -50,-1400 -50,-1300 ; -50,-1200 -50,-1100 ; -50,-1000 -50,-900 ; -50,-800 -50,-700 ; -50,-600 -50,-500 ; -50,-400 -50,-300 ; -50,-200 -50,-100 ; -50,0 -50,100 ; -50,200 -50,300 ; -50,400 -50,500 ; -50,600 -50,700 ; -50,800 -50,900 ; -50,1000 -50,1100 ; -50,1200 -50,1300 ; -50,1400 -50,1500
Via Holes:
  circle w70: c0,1750 r90
  circle w70: c0,-1750 r90

## MAC32L [mil]
pads (34):
  round 110 hole 110: 1(0,-1750) 1(0,1750)
  oct 60x60 hole 40: A2(-100,1450) A4(-100,1250) A6(-100,1050) A8(-100,850) A10(-100,650) A12(-100,450) A14(-100,250) A16(-100,50) A18(-100,-150) A20(-100,-350) A22(-100,-550) A24(-100,-750) A26(-100,-950) A28(-100,-1150) A30(-100,-1350) A32(-100,-1550) C2(-300,1450) C4(-300,1250) C6(-300,1050) C8(-300,850) C10(-300,650) C12(-300,450) C14(-300,250) C16(-300,50) C18(-300,-150) C20(-300,-350) C22(-300,-550) C24(-300,-750) C26(-300,-950) C28(-300,-1150) C30(-300,-1350) C32(-300,-1550)
Bottom Layer keep-out:
  circle w70: c0,1750 r90
  circle w70: c0,-1750 r90
Top Overlay:
  circle w10: c0,1750 r50
  circle w10: c0,-1750 r50
  rectangle: -245,-1560 -155,-1540
  rectangle: -245,-1360 -155,-1340
  rectangle: -245,-1160 -155,-1140
  rectangle: -245,-960 -155,-940
  rectangle: -245,-760 -155,-740
  rectangle: -245,-560 -155,-540
  rectangle: -245,-360 -155,-340
  rectangle: -245,-160 -155,-140
  rectangle: -245,40 -155,60
  rectangle: -245,240 -155,260
  rectangle: -245,440 -155,460
  rectangle: -245,640 -155,660
  rectangle: -245,840 -155,860
  rectangle: -245,1040 -155,1060
  rectangle: -245,1240 -155,1260
  rectangle: -245,1440 -155,1460
  lines w10: -50,-1575 -50,-1650 ; -50,-1325 -50,-1225 ; -50,-1125 -50,-975 ; -50,-925 -50,-825 ; -50,-725 -50,-575 ; -50,-525 -50,-425 ; -50,-325 -50,-175 ; -50,-125 -50,-25 ; -50,75 -50,225 ; -50,275 -50,375 ; -50,475 -50,625 ; -50,675 -50,775 ; -50,875 -50,1025 ; -50,1075 -50,1175 ; -50,1275 -50,1375 ; -50,1475 -50,1525 ; -50,-1650 -100,-1650 -100,-1850 113,-1850 ; -50,-1650 50,-1650 113,-1713 113,-1850 ; -50,-1425 110,-1425 110,-1525 -50,-1525 -50,-1425 ; -50,-1425 -50,-1375 110,-1375 110,-1225 -50,-1225 ; -50,-1225 -50,-1175 110,-1175 110,-825 -50,-825 ; -50,-825 -50,-775 110,-775 110,-425 -50,-425 ; -50,-425 -50,-375 110,-375 110,-25 -50,-25 ; -50,-25 -50,25 110,25 110,375 -50,375 ; -50,375 -50,425 110,425 110,775 -50,775 ; -50,775 -50,825 110,825 110,1175 -50,1175 ; -50,1175 -50,1225 110,1225 110,1375 -50,1375 ; -50,1375 -50,1425 110,1425 110,1525 -50,1525 ; -50,1525 -50,1650 ; -50,1650 -100,1650 -100,1850 113,1850 ; -50,1650 63,1650 113,1700 113,1850 ; 113,-1850 175,-1850 175,-1750 400,-1750 400,1750 175,1750 175,1850 113,1850
  text "C" at -325,1515 h77.5
  text "A" at -120,1515 h77.5
  text "32" at 0,-1600 h77.5
  text "2" at 0,1550 h77.5
  text "DIN 41612 -D" at 300,900 h77.5
Mechanical 1:
  lines w0: 110,-1969 110,1969
Mechanical 16:
  rectangle: -310,-1560 -245,-1540
  rectangle: -155,-1560 -50,-1540
  rectangle: -310,-1360 -245,-1340
  rectangle: -155,-1360 -50,-1340
  rectangle: -310,-1160 -245,-1140
  rectangle: -155,-1160 -50,-1140
  rectangle: -310,-960 -245,-940
  rectangle: -155,-960 -50,-940
  rectangle: -310,-760 -245,-740
  rectangle: -155,-760 -50,-740
  rectangle: -310,-560 -245,-540
  rectangle: -155,-560 -50,-540
  rectangle: -310,-360 -245,-340
  rectangle: -155,-360 -50,-340
  rectangle: -310,-160 -245,-140
  rectangle: -155,-160 -50,-140
  rectangle: -310,40 -245,60
  rectangle: -155,40 -50,60
  rectangle: -310,240 -245,260
  rectangle: -155,240 -50,260
  rectangle: -310,440 -245,460
  rectangle: -155,440 -50,460
  rectangle: -310,640 -245,660
  rectangle: -155,640 -50,660
  rectangle: -310,840 -245,860
  rectangle: -155,840 -50,860
  rectangle: -310,1040 -245,1060
  rectangle: -155,1040 -50,1060
  rectangle: -310,1240 -245,1260
  rectangle: -155,1240 -50,1260
  rectangle: -310,1440 -245,1460
  rectangle: -155,1440 -50,1460
  lines w10: -50,-1575 -50,-1525 ; -50,-1375 -50,-1325 ; -50,-1175 -50,-1125 ; -50,-975 -50,-925 ; -50,-775 -50,-725 ; -50,-575 -50,-525 ; -50,-375 -50,-325 ; -50,-175 -50,-125 ; -50,25 -50,75 ; -50,225 -50,275 ; -50,425 -50,475 ; -50,625 -50,675 ; -50,825 -50,875 ; -50,1025 -50,1075 ; -50,1225 -50,1275 ; -50,1425 -50,1475
Via Holes:
  circle w70: c0,1750 r90
  circle w70: c0,-1750 r90

## MAC32LH [mil]
pads (34):
  round 110 hole 110: 1(0,-950) 1(0,950)
  oct 54x54 hole 36: A1(-100,750) A2(-100,650) A3(-100,550) A4(-100,450) A5(-100,350) A6(-100,250) A7(-100,150) A8(-100,50) A9(-100,-50) A10(-100,-150) A11(-100,-250) A12(-100,-350) A13(-100,-450) A14(-100,-550) A15(-100,-650) A16(-100,-750) C1(-300,750) C2(-300,650) C3(-300,550) C4(-300,450) C5(-300,350) C6(-300,250) C7(-300,150) C8(-300,50) C9(-300,-50) C10(-300,-150) C11(-300,-250) C12(-300,-350) C13(-300,-450) C14(-300,-550) C15(-300,-650) C16(-300,-750)
Bottom Layer keep-out:
  circle w70: c0,-950 r90
  circle w70: c0,950 r90
Top Overlay:
  circle w10: c0,-950 r50
  circle w10: c0,950 r50
  rectangle: -65,740 -50,760
  rectangle: -265,740 -135,760
  rectangle: -265,640 -135,660
  rectangle: -265,540 -135,560
  rectangle: -65,640 -50,660
  rectangle: -65,540 -50,560
  rectangle: -65,440 -50,460
  rectangle: -265,440 -135,460
  rectangle: -65,340 -50,360
  rectangle: -65,240 -50,260
  rectangle: -265,340 -135,360
  rectangle: -265,240 -135,260
  rectangle: -265,140 -135,160
  rectangle: -65,140 -50,160
  rectangle: -65,40 -50,60
  rectangle: -265,40 -135,60
  rectangle: -265,-60 -135,-40
  rectangle: -65,-60 -50,-40
  rectangle: -265,-160 -135,-140
  rectangle: -65,-160 -50,-140
  rectangle: -265,-260 -135,-240
  rectangle: -65,-260 -50,-240
  rectangle: -65,-360 -50,-340
  rectangle: -65,-460 -50,-440
  rectangle: -265,-360 -135,-340
  rectangle: -265,-460 -135,-440
  rectangle: -265,-560 -135,-540
  rectangle: -65,-560 -50,-540
  rectangle: -65,-660 -50,-640
  rectangle: -265,-660 -135,-640
  rectangle: -265,-760 -135,-740
  rectangle: -65,-760 -50,-740
  lines w10: 113,-1050 113,-900 63,-850 ; -50,-850 -100,-850 -100,-1050 175,-1050 175,-930 400,-930 400,930 175,930 175,1050 113,1050 ; -50,-850 63,-850 ; -50,-850 -50,850 ; -50,850 -100,850 -100,1050 113,1050 ; -50,850 63,850 ; 63,-850 63,850 ; 63,850 113,900 113,1050
  text "C" at -300,800 h77.5
  text "A" at -150,800 h77.5
  text "1" at -15,725 h77.5
  text "16" at -10,-770 h77.5
  text "DIN 41612 -C/2" at 300,250 h77.5
Mechanical 1:
  lines w0: 110,-1169 110,1169
Mechanical 16:
  rectangle: -135,740 -65,760
  rectangle: -310,740 -265,760
  rectangle: -135,640 -65,660
  rectangle: -310,640 -265,660
  rectangle: -310,540 -265,560
  rectangle: -135,540 -65,560
  rectangle: -135,440 -65,460
  rectangle: -310,440 -265,460
  rectangle: -135,340 -65,360
  rectangle: -135,240 -65,260
  rectangle: -310,340 -265,360
  rectangle: -310,240 -265,260
  rectangle: -310,140 -265,160
  rectangle: -135,140 -65,160
  rectangle: -135,40 -65,60
  rectangle: -310,40 -265,60
  rectangle: -135,-60 -65,-40
  rectangle: -310,-60 -265,-40
  rectangle: -135,-160 -65,-140
  rectangle: -310,-160 -265,-140
  rectangle: -310,-260 -265,-240
  rectangle: -135,-260 -65,-240
  rectangle: -135,-360 -65,-340
  rectangle: -135,-460 -65,-440
  rectangle: -310,-360 -265,-340
  rectangle: -310,-460 -265,-440
  rectangle: -310,-560 -265,-540
  rectangle: -135,-560 -65,-540
  rectangle: -135,-660 -65,-640
  rectangle: -310,-660 -265,-640
  rectangle: -310,-760 -265,-740
  rectangle: -135,-760 -65,-740
Via Holes:
  circle w70: c0,-950 r90
  circle w70: c0,950 r90

## MAC32R2 [mil]
pads (34):
  round 110 hole 110: 1(-12,-984.25) 1(-12,984.25)
  oct 54x54 hole 36: A1(-100,750) A2(-100,650) A3(-100,550) A4(-100,450) A5(-100,350) A6(-100,250) A7(-100,150) A8(-100,50) A9(-100,-50) A10(-100,-150) A11(-100,-250) A12(-100,-350) A13(-100,-450) A14(-100,-550) A15(-100,-650) A16(-100,-750) C1(100,750) C2(100,650) C3(100,550) C4(100,450) C5(100,350) C6(100,250) C7(100,150) C8(100,50) C9(100,-50) C10(100,-150) C11(100,-250) C12(100,-350) C13(100,-450) C14(100,-550) C15(100,-650) C16(100,-750)
Bottom Layer keep-out:
  circle w70: c-12,984.25 r90
  circle w70: c-12,-984.25 r90
Top Overlay:
  circle w10: c-12,-984.25 r50
  circle w10: c-12,984.25 r50
  lines w10: -115,-920 -115,-900 -175,-900 -175,900 -115,900 -115,920 ; 55,870 55,850 175,850 175,-850 55,-850 55,-875 45,-860 ; 90,-915 90,-885 210,-885 ; 90,915 90,885 210,885 ; -210,-935 -210,-1040 ccw(c-190,-1040) -190,-1060 -125,-1060 ; -210,-935 -210,935 ; -210,-935 -125,-935 ; -210,935 -210,1040 cw(c-190,1040) -190,1060 -125,1060 ; -210,935 -125,935 ; -125,-1060 -125,-935 ; -125,-1060 105,-1060 ; -125,-935 -65,-860 45,-860 ; -125,935 -125,1060 ; -125,935 -65,860 45,860 105,935 105,1060 ; -125,1060 105,1060 ; 45,-860 105,-935 105,-1060 ; 105,-1060 190,-1060 ccw(c190,-1040) 210,-1040 210,-885 ; 105,1060 190,1060 cw(c190,1040) 210,1040 210,885 ; 210,-885 210,885
  text "32" at -45,-845 h77.5
  text "DIN41612-R/2" at 25,200 h77.5
  text "a" at -125,-845 h77.5
  text "c" at 85,-840 h77.5
  text "1" at -15,800 h77.5
  text "a" at -120,795 h77.5
  text "c" at 80,795 h77.5
Via Holes:
  circle w70: c-12,984.25 r90
  circle w70: c-12,-984.25 r90

## MAC32S [mil]
pads (32):
  oct 60x60 hole 40: A2(100,1450) A4(100,1250) A6(100,1050) A8(100,850) A10(100,650) A12(100,450) A14(100,250) A16(100,50) A18(100,-150) A20(100,-350) A22(100,-550) A24(100,-750) A26(100,-950) A28(100,-1150) A30(100,-1350) A32(100,-1550) C2(-100,1450) C4(-100,1250) C6(-100,1050) C8(-100,850) C10(-100,650) C12(-100,450) C14(-100,250) C16(-100,50) C18(-100,-150) C20(-100,-350) C22(-100,-550) C24(-100,-750) C26(-100,-950) C28(-100,-1150) C30(-100,-1350) C32(-100,-1550)
Top Overlay:
  lines w10: -100,-1725 -220,-1725 -220,1725 -100,1725 ; -100,-1725 -50,-1725 ; -100,-1725 -100,-1850 220,-1850 220,-1725 ; -100,1725 -50,1725 ; -100,1725 -100,1850 220,1850 220,1725 ; -50,-1725 -50,-1815 120,-1815 120,-1725 ; -50,-1725 120,-1725 ; -50,1725 -50,1810 120,1810 120,1725 ; -50,1725 120,1725 ; 120,-1725 220,-1725 ; 120,1725 220,1725 ; 220,-1725 220,1725 ; -185,-1655 -55,-1655 -55,-1695 185,-1695 185,1695 -55,1695 -55,1655 -185,1655 -185,-1655 ; -170,-1640 -170,1640 -40,1640 -40,1680 170,1680 170,-1680 -40,-1680 -40,-1640 -170,-1640
  text "C" at -120,1515 h77.5
  text "A" at 75,1515 h77.5
  text "32" at -175,-1715 h77.5
  text "2" at 70,1600 h77.5
  text "DIN41612 -D" at 25,-1600 h77.5
Mechanical 16:
  rectangle: 85,-575 115,-525
  rectangle: 85,-175 115,-125
  rectangle: -115,-575 -85,-525
  rectangle: -115,-175 -85,-125
  rectangle: -115,225 -85,275
  rectangle: -115,625 -85,675
  rectangle: -115,1025 -85,1075
  rectangle: -115,1425 -85,1475
  rectangle: 85,225 115,275
  rectangle: 85,625 115,675
  rectangle: 85,1025 115,1075
  rectangle: 85,1425 115,1475
  rectangle: 85,-775 115,-725
  rectangle: 85,-375 115,-325
  rectangle: -115,-775 -85,-725
  rectangle: -115,-375 -85,-325
  rectangle: -115,25 -85,75
  rectangle: -115,425 -85,475
  rectangle: -115,825 -85,875
  rectangle: -115,1225 -85,1275
  rectangle: 85,25 115,75
  rectangle: 85,425 115,475
  rectangle: 85,825 115,875
  rectangle: 85,1225 115,1275
  rectangle: -115,-1375 -85,-1325
  rectangle: -115,-975 -85,-925
  rectangle: 85,-1375 115,-1325
  rectangle: 85,-975 115,-925
  rectangle: -115,-1575 -85,-1525
  rectangle: -115,-1175 -85,-1125
  rectangle: 85,-1575 115,-1525
  rectangle: 85,-1175 115,-1125

## MAC32SA [mil]
pads (32):
  oct 54x54 hole 36: A2(100,1450) A4(100,1250) A6(100,1050) A8(100,850) A10(100,650) A12(100,450) A14(100,250) A16(100,50) A18(100,-150) A20(100,-350) A22(100,-550) A24(100,-750) A26(100,-950) A28(100,-1150) A30(100,-1350) A32(100,-1550) C2(-100,1450) C4(-100,1250) C6(-100,1050) C8(-100,850) C10(-100,650) C12(-100,450) C14(-100,250) C16(-100,50) C18(-100,-150) C20(-100,-350) C22(-100,-550) C24(-100,-750) C26(-100,-950) C28(-100,-1150) C30(-100,-1350) C32(-100,-1550)
Top Overlay:
  lines w10: -100,-1725 -220,-1725 -220,1725 -100,1725 ; -100,-1725 -50,-1725 ; -100,-1725 -100,-1850 220,-1850 220,-1725 ; -100,1725 -50,1725 ; -100,1725 -100,1850 220,1850 220,1725 ; -50,-1725 -50,-1815 120,-1815 120,-1725 ; -50,-1725 120,-1725 ; -50,1725 -50,1810 120,1810 120,1725 ; -50,1725 120,1725 ; 120,-1725 220,-1725 ; 120,1725 220,1725 ; 220,-1725 220,1725 ; -185,-1655 -55,-1655 -55,-1695 185,-1695 185,1695 -55,1695 -55,1655 -185,1655 -185,-1655 ; -170,-1640 -170,1640 -40,1640 -40,1680 170,1680 170,-1680 -40,-1680 -40,-1640 -170,-1640
  text "C" at -120,1515 h77.5
  text "A" at 75,1515 h77.5
  text "32" at -175,-1715 h77.5
  text "2" at 70,1600 h77.5
  text "DIN41612 -D" at 25,-1600 h77.5
Mechanical 16:
  rectangle: 85,-575 115,-525
  rectangle: 85,-175 115,-125
  rectangle: -115,-575 -85,-525
  rectangle: -115,-175 -85,-125
  rectangle: -115,225 -85,275
  rectangle: -115,625 -85,675
  rectangle: -115,1025 -85,1075
  rectangle: -115,1425 -85,1475
  rectangle: 85,225 115,275
  rectangle: 85,625 115,675
  rectangle: 85,1025 115,1075
  rectangle: 85,1425 115,1475
  rectangle: 85,-775 115,-725
  rectangle: 85,-375 115,-325
  rectangle: -115,-775 -85,-725
  rectangle: -115,-375 -85,-325
  rectangle: -115,25 -85,75
  rectangle: -115,425 -85,475
  rectangle: -115,825 -85,875
  rectangle: -115,1225 -85,1275
  rectangle: 85,25 115,75
  rectangle: 85,425 115,475
  rectangle: 85,825 115,875
  rectangle: 85,1225 115,1275
  rectangle: -115,-1375 -85,-1325
  rectangle: -115,-975 -85,-925
  rectangle: 85,-1375 115,-1325
  rectangle: 85,-975 115,-925
  rectangle: -115,-1575 -85,-1525
  rectangle: -115,-1175 -85,-1125
  rectangle: 85,-1575 115,-1525
  rectangle: 85,-1175 115,-1125